# EAGLE library part PREC070F6X1R90 (library con-pinheader-male-female)
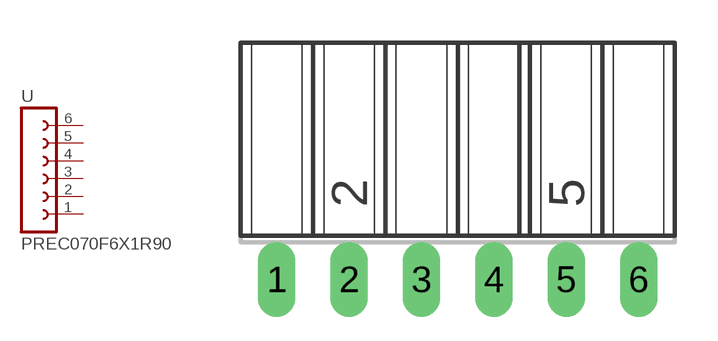
[diagram p0: symbol with the pads of PREC070F6X1R90; footprint PREC070F6X1R90]

Designator prefix -

## PREC070F6X1R90  [PREC070F6X1R90]
1  1  pas
2  2  pas
3  3  pas
4  4  pas
5  5  pas
6  6  pas

## Footprint PREC070F6X1R90 (pad centres in mm)
female precision header
drill 0.813 long: 1 -6.35,0; 2 -3.81,0; 3 -1.27,0; 4 1.27,0; 5 3.81,0; 6 6.35,0